# Altium footprint library Lora-IO-Device.PcbLib: 24 footprints (part 1 of 2)
Each footprint in its own frame and in the unit in brackets; x right, y up, seen from the top. Pads: shape width x height; smd on the part's side, far side on the other; paste and mask are expansions set on the pad; w line width, h text height; cw(c..) or ccw(c..) is an arc to the next point about the centre after c.
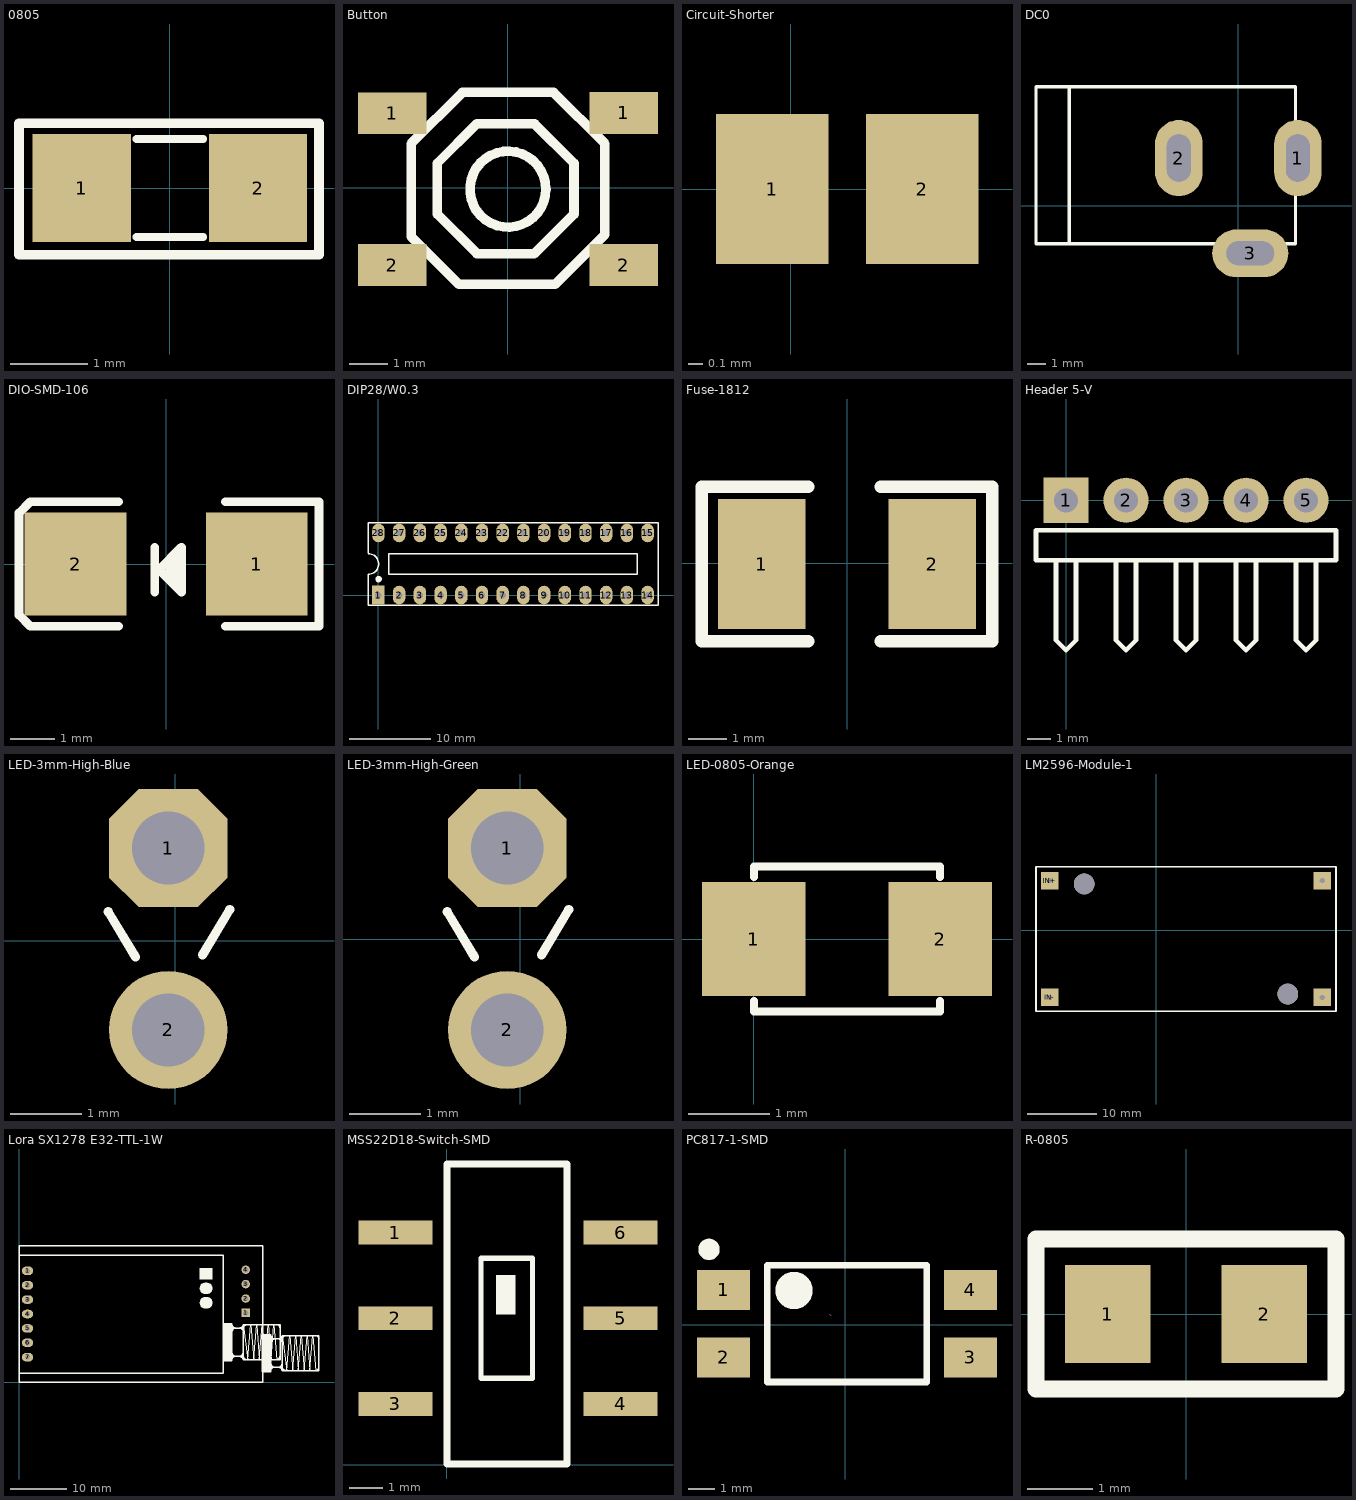
[diagram p0: the footprints below, top view; thin cyan lines are the x and y axes]

## 0805 [mil]
pads (2):
  rect 50x55 smd: 1(-45,0) 2(45,0)
Top Overlay:
  lines w4: -17,-25 17,-25 ; -17,25 17,25
  lines w5: -77,-34 76,-34 76,33 -77,33 -77,-34
3D body "SW3dPS-smt_resistor_packages.STEP": height 24.02, standoff -0.39, extent -39.76,-27 39.77,23

## Button [mm]
pads (4):
  rect 1.8x1.1 smd: 1(-3.048,1.964) 1(3.046,1.973) 2(-3.048,-2.032) 2(3.052,-2.034)
Top Overlay:
  circle w0.254: c0.001,-0.035 r1
  lines w0.254: -2.549,-1.284 -1.299,-2.535 1.25,-2.535 2.55,-1.234 2.55,1.165 1.2,2.515 -1.199,2.515 -2.549,1.165 -2.549,-1.284 ; -1.862,-0.692 -1.862,-0.042 -1.862,0.648 -0.823,1.686 0.701,1.686 1.739,0.647 1.739,-0.692 0.696,-1.735 -0.819,-1.735 -1.862,-0.692
3D body "User Library-button1.STEP": height 1.5, standoff 0, extent -3.2,-2.65 3.203,2.65

## Circuit-Shorter [mil]
pads (2):
  rect 30x40 smd: 1(-5,0) 2(35,0)

## DC0 [mil]
pads (3):
  oval 100x160 hole 50 slot 100 at 90 deg: 1(125,100) 2(-125,100)
  oval 160x100 hole 50 slot 100 at 0 deg: 3(25,-100)
Top Overlay:
  lines w7: -355,-80 -355,250 ; -425,-80 120,-80 120,250 -425,250 -425,-80
3D body "SW3dPS-dc range - dc connector[4840.2201].STEP": height 433.67, standoff -137.2, extent -410.35,-105.12 134,269.12

## DIO-SMD-106 [mil]
pads (2):
  rect 90x90.55 smd: 1(80,0) 2(-80,0)
Top Overlay:
  lines w7.87: -42.24,-55 -120,-55 -130,-45 -130,45 -120,55 -42.24,55 ; -10.12,-24.68 -10.12,14.69 ; 3.66,-10.91 3.66,0.91 ; 9.57,-16.81 9.57,6.81 ; 52.24,-55 135,-55 135,55 52.24,55 ; -6.18,-5 13.5,14.69 13.5,-24.68 -6.18,-5
Mechanical 1:
  lines w3.94: -2.87,0 12.87,0 ; 5,-7.87 5,7.87
3D body "User Library-DO-214Aa SMA.step": height 94.69, standoff 0, extent -98.7,-50.27 106.03,52.09

## DIP28/W0.3 [mil]
pads (28):
  rect 60x90 hole 31: 1(0,0)
  oval 60x90 hole 31: 2(100,0) 3(200,0) 4(300,0) 5(400,0) 6(500,0) 7(600,0) 8(700,0) 9(800,0) 10(900,0) 11(1000,0) 12(1100,0) 13(1200,0) 14(1300,0) 15(1300,300) 16(1200,300) 17(1100,300) 18(1000,300) 19(900,300) 20(800,300) 21(700,300) 22(600,300) 23(500,300) 24(400,300) 25(300,300) 26(200,300) 27(100,300) 28(0,300)
Top Overlay:
  circle w15: c1,77 r8
  lines w7: -50.38,100.05 ccw(c-48.69,150.02) -50,200 ; -50,100 -50,-50 1350,-50 1350,350 -50,350 -50,201 ; 50,100 1250,100 1250,200 50,200 50,100
3D body "SW3dPS-DIP28-300.STEP": height 200, standoff -98.03, extent -50,-10 1367.32,299.84

## Fuse-1812 [mil]
pads (2):
  rect 90x133.86 smd: 1(-88.15,-1) 2(87.85,-1)
Top Overlay:
  lines w13: -40.15,-81 -150.15,-81 -150.15,79 -40.15,79 ; 34.85,-81 149.85,-81 149.85,79 34.85,79
3D body "User Library-0ZCG-0_70mm.STEP": height 32.72, standoff -2.72, extent -88.58,-62.99 88.59,63

## Header 5-V [mil]
pads (5):
  rect 75x75 hole 40: 1(0,0)
  round 75 hole 40: 2(100,0) 3(200,0) 4(300,0) 5(400,0)
Top Overlay:
  lines w7.87: -16.67,-100 -16.67,-233.33 0,-250 16.67,-233.33 16.67,-100 ; 83.33,-100 83.33,-233.33 100,-250 116.67,-233.33 116.67,-100 ; 183.33,-100 183.33,-233.33 200,-250 216.67,-233.33 216.67,-100 ; 283.33,-100 283.33,-233.33 300,-250 316.67,-233.33 316.67,-100 ; 383.33,-100 383.33,-233.33 400,-250 416.67,-233.33 416.67,-100 ; -50,-100 -50,-50 450,-50 450,-100 -50,-100
3D body "User Library-0_1inch pin strip right angle (4).step": height 171.28, standoff -117.11, extent -50,-275.59 450,50

## LED-3mm-High-Blue [mil]
pads (2):
  oct 65x65 hole 40: 1(-3.79,51)
  round 65 hole 40: 2(-3.79,-49)
Top Overlay:
  lines w5: -36.79,16 -21.79,-9 ; 15,-7.69 30,17.31
3D body "LED_3mm.stp": height 1069.29, standoff -100, extent -80,-66.85 69.31,76.85

## LED-3mm-High-Green [mil]
pads (2):
  oct 65x65 hole 40: 1(-7,50)
  round 65 hole 40: 2(-7,-50)
Top Overlay:
  lines w5: -40,15 -25,-10 ; 11.79,-8.69 26.79,16.31
3D body "LED_3mm.stp": height 1069.29, standoff -100, extent -84.66,-63.7 64.66,80

## LED-0805-Orange [mil]
pads (2):
  rect 50x55 smd: 1(0,0) 2(90,0)
Top Overlay:
  lines w4: 0,-30 0,-35 90,-35 90,-30 ; 0,30 0,35 90,35 90,30
3D body "User Library-led_0805-orange.step": height 43.31, standoff 0, extent 5.24,-24.59 84.77,24.62

## LM2596-Module-1 [mm]
pads (6):
  rect 2.54x2.54 hole 0.762: IN+(-15.449,7.25) IN-(-15.449,-9.75) OUT+(24.151,7.25) OUT-(24.151,-9.75)
  round 3 hole 3 unplated: ""(-10.449,6.75) ""(19.151,-9.25)
Top Overlay:
  lines w0.254: -17.449,-11.75 26.151,-11.75 26.151,9.25 -17.449,9.25 -17.449,-11.75
3D body "User Library-DC-DC MODULE LM2596s.STEP": height 12.41, standoff -1.4, extent -17.399,-11.761 26.101,9.239

## Lora SX1278 E32-TTL-1W [mm]
pads (28):
  oval 2x1.5 hole 0.9: 1(1.499,19.634) 1(1.499,19.634) 2(1.499,17.094) 2(1.499,17.094) 3(1.499,14.554) 3(1.499,14.554) 4(1.499,12.014) 4(1.499,12.014) 5(1.499,9.474) 5(1.499,9.474) 6(1.499,6.934) 6(1.499,6.934) 7(1.499,4.394) 7(1.499,4.394)
  rect 1.5x1.5 hole 0.9: 1(39.999,12.204) 1(39.999,12.204)
  round 1.5 hole 0.9: 2(39.999,14.744) 2(39.999,14.744) 3(39.999,17.284) 3(39.999,17.284) 4(39.999,19.824) 4(39.999,19.824)
  oval 2.286x2.032 on Top Overlay: ""(32.989,14) ""(32.989,14) ""(32.989,16.54) ""(32.989,16.54)
  rect 2.286x2.032 on Top Overlay: ""(32.989,19.08) ""(32.989,19.08)
Top Overlay:
  drawing of 192 lines, arcs and shapes, not listed
Bottom Overlay:
  region: 31.609,20.629 31.609,20.32 34.409,20.32 34.409,20.629
  region: 31.609,20.629 31.609,20.32 34.409,20.32 34.409,20.629
  lines w0.127: 0.199,3.014 2.799,3.014 ; 0.199,3.014 0.199,21.014 ; 0.199,3.014 2.799,3.014 ; 0.199,3.014 0.199,21.014 ; 0.199,3.04 2.799,3.04 ; 0.199,3.04 0.199,21.04 ; 0.199,3.04 2.799,3.04 ; 0.199,3.04 0.199,21.04 ; 0.199,21.014 2.799,21.014 ; 0.199,21.014 2.799,21.014 ; 0.199,21.04 2.799,21.04 ; 0.199,21.04 2.799,21.04 ; 2.799,3.014 2.799,21.014 ; 2.799,3.014 2.799,21.014 ; 2.799,3.04 2.799,21.04 ; 2.799,3.04 2.799,21.04 ; 31.399,12.53 31.399,20.82 ; 31.399,12.53 34.589,12.53 ; 31.399,12.53 31.399,20.82 ; 31.399,12.53 34.589,12.53 ; 31.399,20.82 34.589,20.82 ; 31.399,20.82 34.589,20.82 ; 31.609,12.73 31.609,20.32 ; 31.609,12.73 34.409,12.73 ; 31.609,12.73 31.609,20.32 ; 31.609,12.73 34.409,12.73 ; 31.609,20.32 34.409,20.32 ; 31.609,20.32 31.609,20.63 ; 31.609,20.32 34.409,20.32 ; 31.609,20.32 31.609,20.63 ; 31.609,20.63 34.409,20.63 ; 31.609,20.63 34.409,20.63 ; 34.409,12.73 34.409,20.32 ; 34.409,12.73 34.409,20.32 ; 34.409,20.32 34.409,20.63 ; 34.409,20.32 34.409,20.63 ; 34.589,12.53 34.589,20.82 ; 34.589,12.53 34.589,20.82
3D body "HEADER-1WAY-1ROW-2.54MM-VERTICAL-PCB.SLDPRT": height 10.62, standoff -0.92, extent 38.76,11.1 41.3,13.64
3D body "05_ HEADER-3WAY-1ROW-2.54MM-VERTICAL-PCB.SLDPRT": height 10.59, standoff -0.96, extent 38.76,13.614 41.3,21.234
3D body "E32-TTL-1W.SLDPRT": height 11.41, standoff 7.62, extent 0.025,-0.062 43.025,23.938
3D body "SMA CONNECTOR - EMPCB.SMAFSTJ.B.HT.SLDPRT": height 12.7, standoff 6.35, extent 39.502,1.88 52.802,8.23
3D body "User Library-Header_Male_7Pin.STEP": height 10.62, standoff -0.92, extent 0.33,2.997 2.819,20.777

## MSS22D18-Switch-SMD [mil]
pads (6):
  rect 86.6x27.6 smd: 1(-59.7,271) 2(-59.7,171) 3(-59.7,71) 4(202.9,71) 5(202.9,171) 6(202.9,271)
Top Overlay:
  region: 80.3,221 57.9,221 57.9,175.81 80.3,175.81
  lines w6: 40.3,101 40.3,241 100.3,241 100.3,101 40.3,101
  lines w8: 0.3,1 0.3,351 140.3,351 140.3,1 0.3,1
3D body "Selector Switch - MSS22D18.stp": height 226.5, standoff -2.5, extent -62.49,-8.5 209.51,352.5

## PC817-1-SMD [mm]
pads (4):
  rect 2x1.5 smd: 1(-4.584,1.311) 2(-4.584,-1.229) 3(4.715,-1.229) 4(4.715,1.311)
Top Overlay:
  lines w0.254: -2.934,-2.159 3.066,-2.159 3.066,2.241 -2.934,2.241 -2.934,-2.159
  lines w0.4: -5.134,3.041 ccw(c-5.133,2.841) -5.131,3.041
  lines w0.7: -1.933,1.641 ccw(c-1.931,1.291) -1.928,1.641
Mechanical 15:
  lines w0.003: -0.606,0.403 -0.555,0.352
3D body "User Library-PC817_Gullwing.STEP": height 3.91, standoff 0.06, extent -5,-2.29 5,2.29

## R-0805 [mm]
pads (2):
  rect 1.3x1.5 smd: 1(-1.194,0) 2(1.194,0)
Top Overlay:
  lines w0.254: -2.286,-1.143 -2.286,1.143 2.286,1.143 2.286,-1.143 -2.286,-1.143
3D body "User Library-Chip Resistor2.STEP": height 0.63, standoff 0, extent -0.95,-0.65 0.95,0.65